# EAGLE library part 1770924 (library con-phoenix-250-extra)
PHOENIX
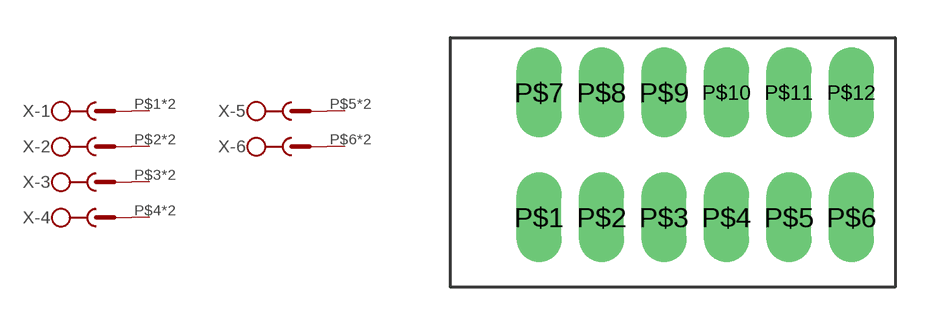
[diagram p0: symbol with the pads of 1770924; footprint 1770924]

Designator prefix X; gates -1=SK -2=SK -3=SK -4=SK -5=SK -6=SK

## 1770924 (OC_FARNELL: unknown; OC_NEWARK: unknown)  [1770924]
P$1  -1:SK  pas
P$2  -2:SK  pas
P$3  -3:SK  pas
P$4  -4:SK  pas
P$5  -5:SK  pas
P$6  -6:SK  pas
P$7  -1:SK  pas
P$8  -2:SK  pas
P$9  -3:SK  pas
P$10  -4:SK  pas
P$11  -5:SK  pas
P$12  -6:SK  pas

## Footprint 1770924 (pad centres in mm)
PHOENIX
drill 1.2 long: P$1 3.55,2.7; P$2 6.05,2.7; P$3 8.55,2.7; P$4 11.05,2.7; P$5 13.55,2.7; P$6 16.05,2.7; P$7 3.55,7.7; P$8 6.05,7.7; P$9 8.55,7.7; P$10 11.05,7.7; P$11 13.55,7.7; P$12 16.05,7.7